# Altium schematic symbol library Components - 11.11.25 - 12.07.SchLib: 1 symbol
Pins are listed as number, name and electrical type; pins without a type are passive.

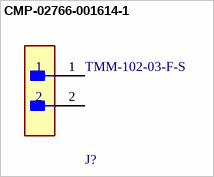
[diagram p0: symbol CMP-02766-001614-1]

## CMP-02766-001614-1
designator J?, comment TMM-102-03-F-S
CONN HEADER VERT 2POS 2MM; Number of Contacts: 2; Gender: Male; Pitch: 2mm; Packaging: Bulk; RoHS Compliant: Yes; Termination: Solder; Contact Plating: Gold; Mount: Through Hole; Number of Rows: 1; Radiation Hardening: No; Lead Free: Lead Free
footprint FP-TMM-102-03-F-S-MFG
pins: 1, 2